# EAGLE library part IMS-T9000 (library Transputers)
T9000 transputer INMOS 64 bit transputer with four 100Mbits/s bidirectional communication links with virtual channel capability. Operation clock frequency 50-200Mhz. Source: T9000 Transputer Hardware Reference Manual 1993 /IMS-T9000 Datasheet, ST-Microelectronics Septemper 1995 Arto Kyyhkynen, artoky@dlc.fi
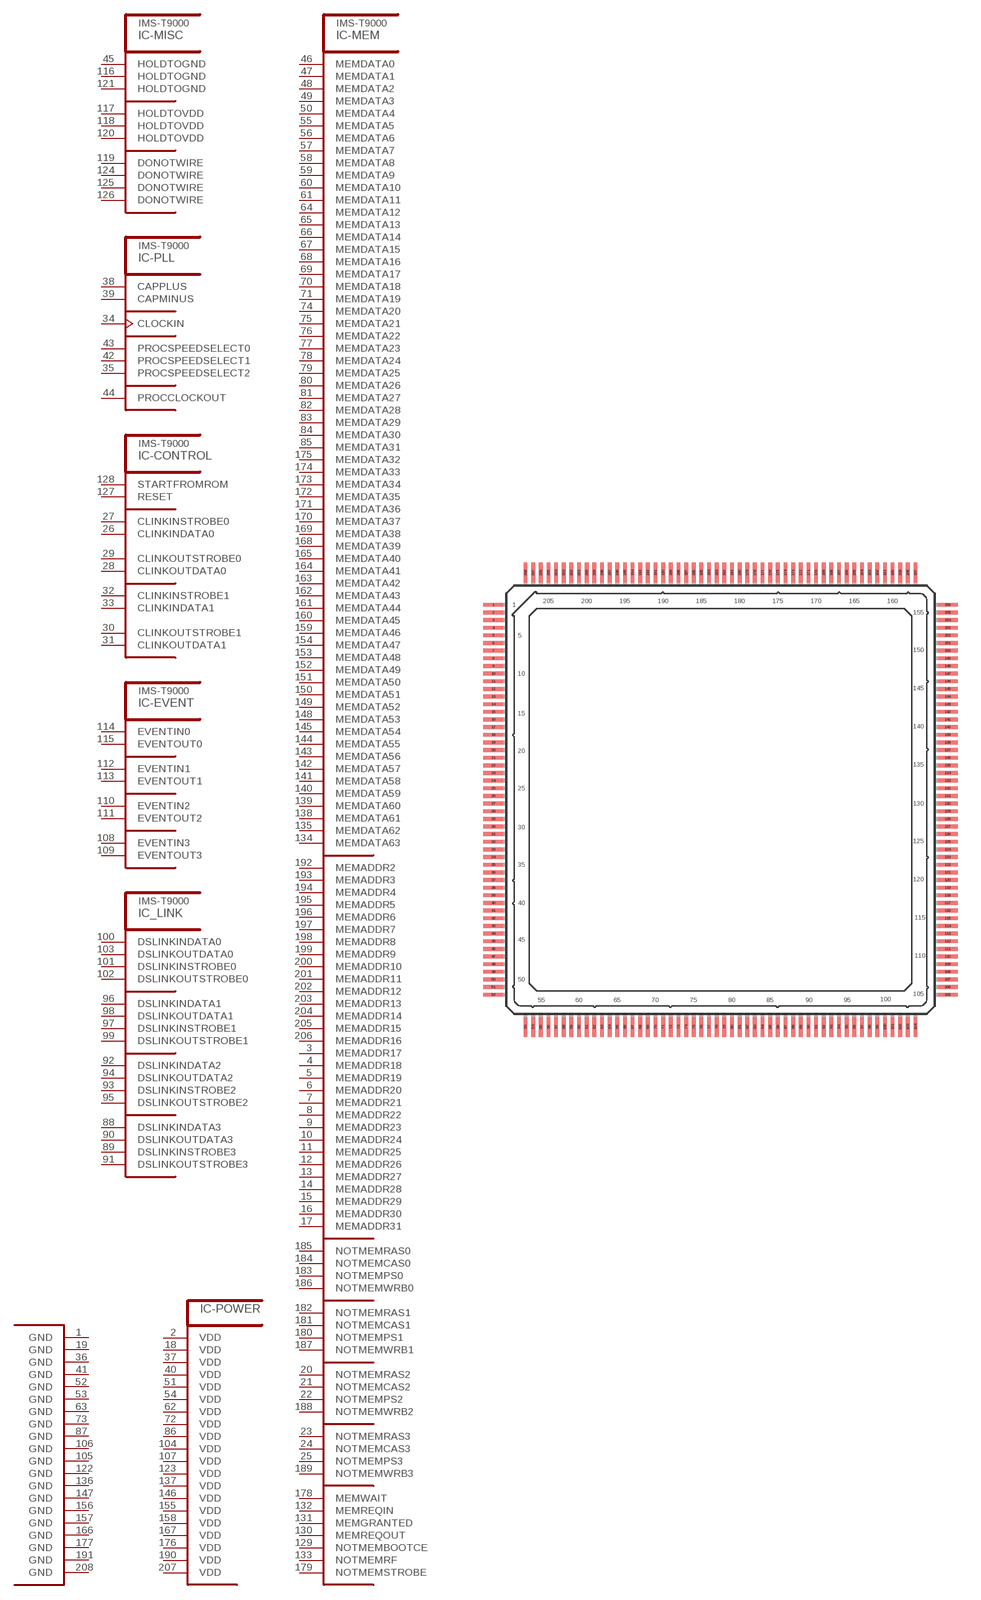
[diagram p3: symbol with the pads of CLCC208; footprint CLCC208]

Designator prefix IC; gates -CONTROL=T9CONTROL -EVENT=T9EVENT -MISC=T9MISC -PLL=T9PLL -POWER=T9SUP -MEM=T9MEM _LINK=T9LINK

## IMS-T9000S100F, IMS-T9000S200F, IMS-T9000S50F  [CLCC208]
1  -POWER:GND  pwr
2  -POWER:VDD  pwr
3  -MEM:MEMADDR17  out
4  -MEM:MEMADDR18  out
5  -MEM:MEMADDR19  out
6  -MEM:MEMADDR20  out
7  -MEM:MEMADDR21  out
8  -MEM:MEMADDR22  out
9  -MEM:MEMADDR23  out
10  -MEM:MEMADDR24  out
11  -MEM:MEMADDR25  out
12  -MEM:MEMADDR26  out
13  -MEM:MEMADDR27  out
14  -MEM:MEMADDR28  out
15  -MEM:MEMADDR29  out
16  -MEM:MEMADDR30  out
17  -MEM:MEMADDR31  out
18  -POWER:VDD  pwr
19  -POWER:GND  pwr
20  -MEM:NOTMEMRAS2  out
21  -MEM:NOTMEMCAS2  out
22  -MEM:NOTMEMPS2  out
23  -MEM:NOTMEMRAS3  out
24  -MEM:NOTMEMCAS3  out
25  -MEM:NOTMEMPS3  out
26  -CONTROL:CLINKINDATA0  in
27  -CONTROL:CLINKINSTROBE0  in
28  -CONTROL:CLINKOUTDATA0  out
29  -CONTROL:CLINKOUTSTROBE0  out
30  -CONTROL:CLINKOUTSTROBE1  out
31  -CONTROL:CLINKOUTDATA1  out
32  -CONTROL:CLINKINSTROBE1  in
33  -CONTROL:CLINKINDATA1  in
34  -PLL:CLOCKIN  in
35  -PLL:PROCSPEEDSELECT2  in
36  -POWER:GND  pwr
37  -POWER:VDD  pwr
38  -PLL:CAPPLUS  pas
39  -PLL:CAPMINUS  pas
40  -POWER:VDD  pwr
41  -POWER:GND  pwr
42  -PLL:PROCSPEEDSELECT1  in
43  -PLL:PROCSPEEDSELECT0  in
44  -PLL:PROCCLOCKOUT  out
45  -MISC:HOLDTOGND  in
46  -MEM:MEMDATA0
47  -MEM:MEMDATA1
48  -MEM:MEMDATA2
49  -MEM:MEMDATA3
50  -MEM:MEMDATA4
51  -POWER:VDD  pwr
52  -POWER:GND  pwr
53  -POWER:GND  pwr
54  -POWER:VDD  pwr
55  -MEM:MEMDATA5
56  -MEM:MEMDATA6
57  -MEM:MEMDATA7
58  -MEM:MEMDATA8
59  -MEM:MEMDATA9
60  -MEM:MEMDATA10
61  -MEM:MEMDATA11
62  -POWER:VDD  pwr
63  -POWER:GND  pwr
64  -MEM:MEMDATA12
65  -MEM:MEMDATA13
66  -MEM:MEMDATA14
67  -MEM:MEMDATA15
68  -MEM:MEMDATA16
69  -MEM:MEMDATA17
70  -MEM:MEMDATA18
71  -MEM:MEMDATA19
72  -POWER:VDD  pwr
73  -POWER:GND  pwr
74  -MEM:MEMDATA20
75  -MEM:MEMDATA21
76  -MEM:MEMDATA22
77  -MEM:MEMDATA23
78  -MEM:MEMDATA24
79  -MEM:MEMDATA25
80  -MEM:MEMDATA26
81  -MEM:MEMDATA27
82  -MEM:MEMDATA28
83  -MEM:MEMDATA29
84  -MEM:MEMDATA30
85  -MEM:MEMDATA31
86  -POWER:VDD  pwr
87  -POWER:GND  pwr
88  _LINK:DSLINKINDATA3  in
89  _LINK:DSLINKINSTROBE3  in
90  _LINK:DSLINKOUTDATA3  out
91  _LINK:DSLINKOUTSTROBE3  out
92  _LINK:DSLINKINDATA2  in
93  _LINK:DSLINKINSTROBE2  in
94  _LINK:DSLINKOUTDATA2  out
95  _LINK:DSLINKOUTSTROBE2  out
96  _LINK:DSLINKINDATA1  in
97  _LINK:DSLINKINSTROBE1  in
98  _LINK:DSLINKOUTDATA1  out
99  _LINK:DSLINKOUTSTROBE1  out
100  _LINK:DSLINKINDATA0  in
101  _LINK:DSLINKINSTROBE0  in
102  _LINK:DSLINKOUTSTROBE0  out
103  _LINK:DSLINKOUTDATA0  out
104  -POWER:VDD  pwr
105  -POWER:GND  pwr
106  -POWER:GND  pwr
107  -POWER:VDD  pwr
108  -EVENT:EVENTIN3  in
109  -EVENT:EVENTOUT3  out
110  -EVENT:EVENTIN2  in
111  -EVENT:EVENTOUT2  out
112  -EVENT:EVENTIN1  in
113  -EVENT:EVENTOUT1  out
114  -EVENT:EVENTIN0  in
115  -EVENT:EVENTOUT0  out
116  -MISC:HOLDTOGND  in
117  -MISC:HOLDTOVDD  in
118  -MISC:HOLDTOVDD  in
119  -MISC:DONOTWIRE  in
120  -MISC:HOLDTOVDD  in
121  -MISC:HOLDTOGND  in
122  -POWER:GND  pwr
123  -POWER:VDD  pwr
124  -MISC:DONOTWIRE  in
125  -MISC:DONOTWIRE  in
126  -MISC:DONOTWIRE  in
127  -CONTROL:RESET  in
128  -CONTROL:STARTFROMROM  in
129  -MEM:NOTMEMBOOTCE  out
130  -MEM:MEMREQOUT  out
131  -MEM:MEMGRANTED  out
132  -MEM:MEMREQIN  in
133  -MEM:NOTMEMRF  out
134  -MEM:MEMDATA63
135  -MEM:MEMDATA62
136  -POWER:GND  pwr
137  -POWER:VDD  pwr
138  -MEM:MEMDATA61
139  -MEM:MEMDATA60
140  -MEM:MEMDATA59
141  -MEM:MEMDATA58
142  -MEM:MEMDATA57
143  -MEM:MEMDATA56
144  -MEM:MEMDATA55
145  -MEM:MEMDATA54
146  -POWER:VDD  pwr
147  -POWER:GND  pwr
148  -MEM:MEMDATA53
149  -MEM:MEMDATA52
150  -MEM:MEMDATA51
151  -MEM:MEMDATA50
152  -MEM:MEMDATA49
153  -MEM:MEMDATA48
154  -MEM:MEMDATA47
155  -POWER:VDD  pwr
156  -POWER:GND  pwr
157  -POWER:GND  pwr
158  -POWER:VDD  pwr
159  -MEM:MEMDATA46
160  -MEM:MEMDATA45
161  -MEM:MEMDATA44
162  -MEM:MEMDATA43
163  -MEM:MEMDATA42
164  -MEM:MEMDATA41
165  -MEM:MEMDATA40
166  -POWER:GND  pwr
167  -POWER:VDD  pwr
168  -MEM:MEMDATA39
169  -MEM:MEMDATA38
170  -MEM:MEMDATA37
171  -MEM:MEMDATA36
172  -MEM:MEMDATA35
173  -MEM:MEMDATA34
174  -MEM:MEMDATA33
175  -MEM:MEMDATA32
176  -POWER:VDD  pwr
177  -POWER:GND  pwr
178  -MEM:MEMWAIT  in
179  -MEM:NOTMEMSTROBE  out
180  -MEM:NOTMEMPS1  out
181  -MEM:NOTMEMCAS1  out
182  -MEM:NOTMEMRAS1  out
183  -MEM:NOTMEMPS0  out
184  -MEM:NOTMEMCAS0  out
185  -MEM:NOTMEMRAS0  out
186  -MEM:NOTMEMWRB0  out
187  -MEM:NOTMEMWRB1  out
188  -MEM:NOTMEMWRB2  out
189  -MEM:NOTMEMWRB3  out
190  -POWER:VDD  pwr
191  -POWER:GND  pwr
192  -MEM:MEMADDR2  out
193  -MEM:MEMADDR3  out
194  -MEM:MEMADDR4  out
195  -MEM:MEMADDR5  out
196  -MEM:MEMADDR6  out
197  -MEM:MEMADDR7  out
198  -MEM:MEMADDR8  out
199  -MEM:MEMADDR9  out
200  -MEM:MEMADDR10  out
201  -MEM:MEMADDR11  out
202  -MEM:MEMADDR12  out
203  -MEM:MEMADDR13  out
204  -MEM:MEMADDR14  out
205  -MEM:MEMADDR15  out
206  -MEM:MEMADDR16  out
207  -POWER:VDD  pwr
208  -POWER:GND  pwr

## Footprint CLCC208 (pad centres in mm)
Cavity Down Ceramic Leaded Chip Carrier INMOS/ST-Microelectronics
smd 1.3 x 0.25: 1 -14.85,12.75; 2 -14.85,12.25; 3 -14.85,11.75; 4 -14.85,11.25; 5 -14.85,10.75; 6 -14.85,10.25; 7 -14.85,9.75; 8 -14.85,9.25; 9 -14.85,8.75; 10 -14.85,8.25; 11 -14.85,7.75; 12 -14.85,7.25; 13 -14.85,6.75; 14 -14.85,6.25; 15 -14.85,5.75; 16 -14.85,5.25; 17 -14.85,4.75; 18 -14.85,4.25; 19 -14.85,3.75; 20 -14.85,3.25; 21 -14.85,2.75; 22 -14.85,2.25; 23 -14.85,1.75; 24 -14.85,1.25; 25 -14.85,0.75; 26 -14.85,0.25; 27 -14.85,-0.25; 28 -14.85,-0.75; 29 -14.85,-1.25; 30 -14.85,-1.75; 31 -14.85,-2.25; 32 -14.85,-2.75; 33 -14.85,-3.25; 34 -14.85,-3.75; 35 -14.85,-4.25; 36 -14.85,-4.75; 37 -14.85,-5.25; 38 -14.85,-5.75; 39 -14.85,-6.25; 40 -14.85,-6.75; 41 -14.85,-7.25; 42 -14.85,-7.75; 43 -14.85,-8.25; 44 -14.85,-8.75; 45 -14.85,-9.25; 46 -14.85,-9.75; 47 -14.85,-10.25; 48 -14.85,-10.75; 49 -14.85,-11.25; 50 -14.85,-11.75; 51 -14.85,-12.25; 52 -14.85,-12.75; 105 14.85,-12.75; 106 14.85,-12.25; 107 14.85,-11.75; 108 14.85,-11.25; 109 14.85,-10.75; 110 14.85,-10.25; 111 14.85,-9.75; 112 14.85,-9.25; 113 14.85,-8.75; 114 14.85,-8.25; 115 14.85,-7.75; 116 14.85,-7.25; 117 14.85,-6.75; 118 14.85,-6.25; 119 14.85,-5.75; 120 14.85,-5.25; 121 14.85,-4.75; 122 14.85,-4.25; 123 14.85,-3.75; 124 14.85,-3.25; 125 14.85,-2.75; 126 14.85,-2.25; 127 14.85,-1.75; 128 14.85,-1.25; 129 14.85,-0.75; 130 14.85,-0.25; 131 14.85,0.25; 132 14.85,0.75; 133 14.85,1.25; 134 14.85,1.75; 135 14.85,2.25; 136 14.85,2.75; 137 14.85,3.25; 138 14.85,3.75; 139 14.85,4.25; 140 14.85,4.75; 141 14.85,5.25; 142 14.85,5.75; 143 14.85,6.25; 144 14.85,6.75; 145 14.85,7.25; 146 14.85,7.75; 147 14.85,8.25; 148 14.85,8.75; 149 14.85,9.25; 150 14.85,9.75; 151 14.85,10.25; 152 14.85,10.75; 153 14.85,11.25; 154 14.85,11.75; 155 14.85,12.25; 156 14.85,12.75
smd 0.25 x 1.3: 53 -12.75,-14.85; 54 -12.25,-14.85; 55 -11.75,-14.85; 56 -11.25,-14.85; 57 -10.75,-14.85; 58 -10.25,-14.85; 59 -9.75,-14.85; 60 -9.25,-14.85; 61 -8.75,-14.85; 62 -8.25,-14.85; 63 -7.75,-14.85; 64 -7.25,-14.85; 65 -6.75,-14.85; 66 -6.25,-14.85; 67 -5.75,-14.85; 68 -5.25,-14.85; 69 -4.75,-14.85; 70 -4.25,-14.85; 71 -3.75,-14.85; 72 -3.25,-14.85; 73 -2.75,-14.85; 74 -2.25,-14.85; 75 -1.75,-14.85; 76 -1.25,-14.85; 77 -0.75,-14.85; 78 -0.25,-14.85; 79 0.25,-14.85; 80 0.75,-14.85; 81 1.25,-14.85; 82 1.75,-14.85; 83 2.25,-14.85; 84 2.75,-14.85; 85 3.25,-14.85; 86 3.75,-14.85; 87 4.25,-14.85; 88 4.75,-14.85; 89 5.25,-14.85; 90 5.75,-14.85; 91 6.25,-14.85; 92 6.75,-14.85; 93 7.25,-14.85; 94 7.75,-14.85; 95 8.25,-14.85; 96 8.75,-14.85; 97 9.25,-14.85; 98 9.75,-14.85; 99 10.25,-14.85; 100 10.75,-14.85; 101 11.25,-14.85; 102 11.75,-14.85; 103 12.25,-14.85; 104 12.75,-14.85; 157 12.75,14.85; 158 12.25,14.85; 159 11.75,14.85; 160 11.25,14.85; 161 10.75,14.85; 162 10.25,14.85; 163 9.75,14.85; 164 9.25,14.85; 165 8.75,14.85; 166 8.25,14.85; 167 7.75,14.85; 168 7.25,14.85; 169 6.75,14.85; 170 6.25,14.85; 171 5.75,14.85; 172 5.25,14.85; 173 4.75,14.85; 174 4.25,14.85; 175 3.75,14.85; 176 3.25,14.85; 177 2.75,14.85; 178 2.25,14.85; 179 1.75,14.85; 180 1.25,14.85; 181 0.75,14.85; 182 0.25,14.85; 183 -0.25,14.85; 184 -0.75,14.85; 185 -1.25,14.85; 186 -1.75,14.85; 187 -2.25,14.85; 188 -2.75,14.85; 189 -3.25,14.85; 190 -3.75,14.85; 191 -4.25,14.85; 192 -4.75,14.85; 193 -5.25,14.85; 194 -5.75,14.85; 195 -6.25,14.85; 196 -6.75,14.85; 197 -7.25,14.85; 198 -7.75,14.85; 199 -8.25,14.85; 200 -8.75,14.85; 201 -9.25,14.85; 202 -9.75,14.85; 203 -10.25,14.85; 204 -10.75,14.85; 205 -11.25,14.85; 206 -11.75,14.85; 207 -12.25,14.85; 208 -12.75,14.85